# Altium footprint library cui.PcbLib: 1 footprints
Each footprint in its own frame and in the unit in brackets; x right, y up, seen from the top. Pads: shape width x height; smd on the part's side, far side on the other; paste and mask are expansions set on the pad; w line width, h text height; cw(c..) or ccw(c..) is an arc to the next point about the centre after c.
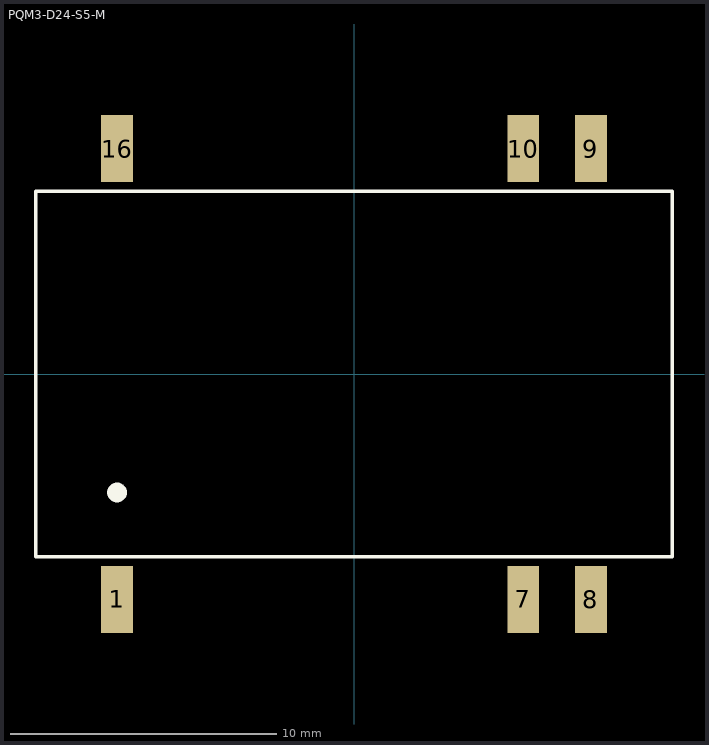
[diagram p0: the footprint, top view; thin cyan lines are the x and y axes]

## PQM3-D24-S5-M [mm] "CUI Power Supply"
height 8.001
pads (6):
  rect 1.2x2.5 smd: 1(-8.89,-8.46) 7(6.35,-8.46) 8(8.89,-8.46) 9(8.89,8.46) 10(6.35,8.46) 16(-8.89,8.46)
Top Overlay:
  circle w0.381: c-8.89,-4.445 r0.18
  lines w0.127: -11.938,-6.858 11.938,-6.858 11.938,6.858 -11.938,6.858 -11.938,-6.858
3D body: height 8.01, standoff 0.01, extent -11.93,-9.326 11.93,8.818